# EAGLE library part 146134-06 (library con-tyco-mod-II)
HEADER
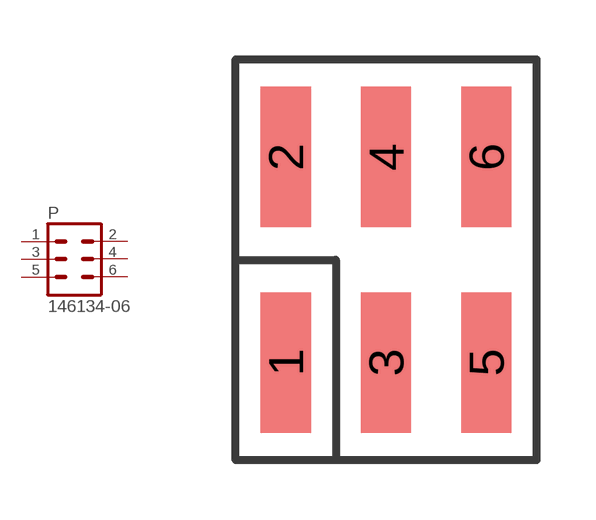
[diagram p0: symbol with the pads of 146134-06; footprint 146134-06]

Designator prefix P

## 146134-06  [146134-06]
1  1  pas
2  2  pas
3  3  pas
4  4  pas
5  5  pas
6  6  pas

## Footprint 146134-06 (pad centres in mm)
HEADER
smd 1.27 x 3.556: 1 -2.54,-2.603; 2 -2.54,2.603; 3 0,-2.603; 4 0,2.603; 5 2.54,-2.603; 6 2.54,2.603